# EAGLE library part BTS5012-1EKB (library mosfet-infineon)
BTS5012-1EKB Smart High-Side Power Switch, Single Channel, 12 mOhm, PROFET +12V SOIC127P600X170-15N
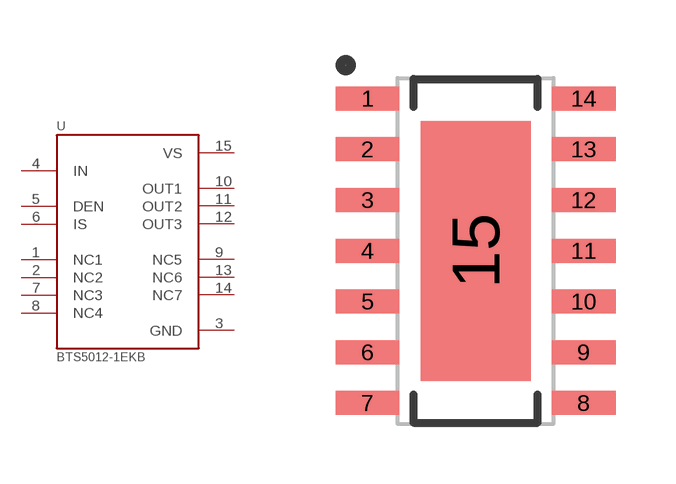
[diagram p52: symbol with the pads of SOIC127P600X170-15N; footprint SOIC127P600X170-15N]

Designator prefix U

## BTS5012-1EKB  [SOIC127P600X170-15N]
1  NC1  pas
2  NC2  pas
3  GND  pwr
4  IN  in
5  DEN  in
6  IS  out
7  NC3  pas
8  NC4  pas
9  NC5  pas
10  OUT1  out
11  OUT2  out
12  OUT3  out
13  NC6  pas
14  NC7  pas
15  VS  pwr

## Footprint SOIC127P600X170-15N (pad centres in mm)
Original name SOIC127P600X170-15N Max Component Height - 1.7mm
smd 1.6 x 0.6: 1 -2.7,3.81; 2 -2.7,2.54; 3 -2.7,1.27; 4 -2.7,0; 5 -2.7,-1.27; 6 -2.7,-2.54; 7 -2.7,-3.81; 8 2.7,-3.81; 9 2.7,-2.54; 10 2.7,-1.27; 11 2.7,0; 12 2.7,1.27; 13 2.7,2.54; 14 2.7,3.81
smd 2.75 x 6.5: 15 0,0